# Altium integrated library Xilinx Spartan-6 FPGA.IntLib: 471 symbols (part 2 of 3)
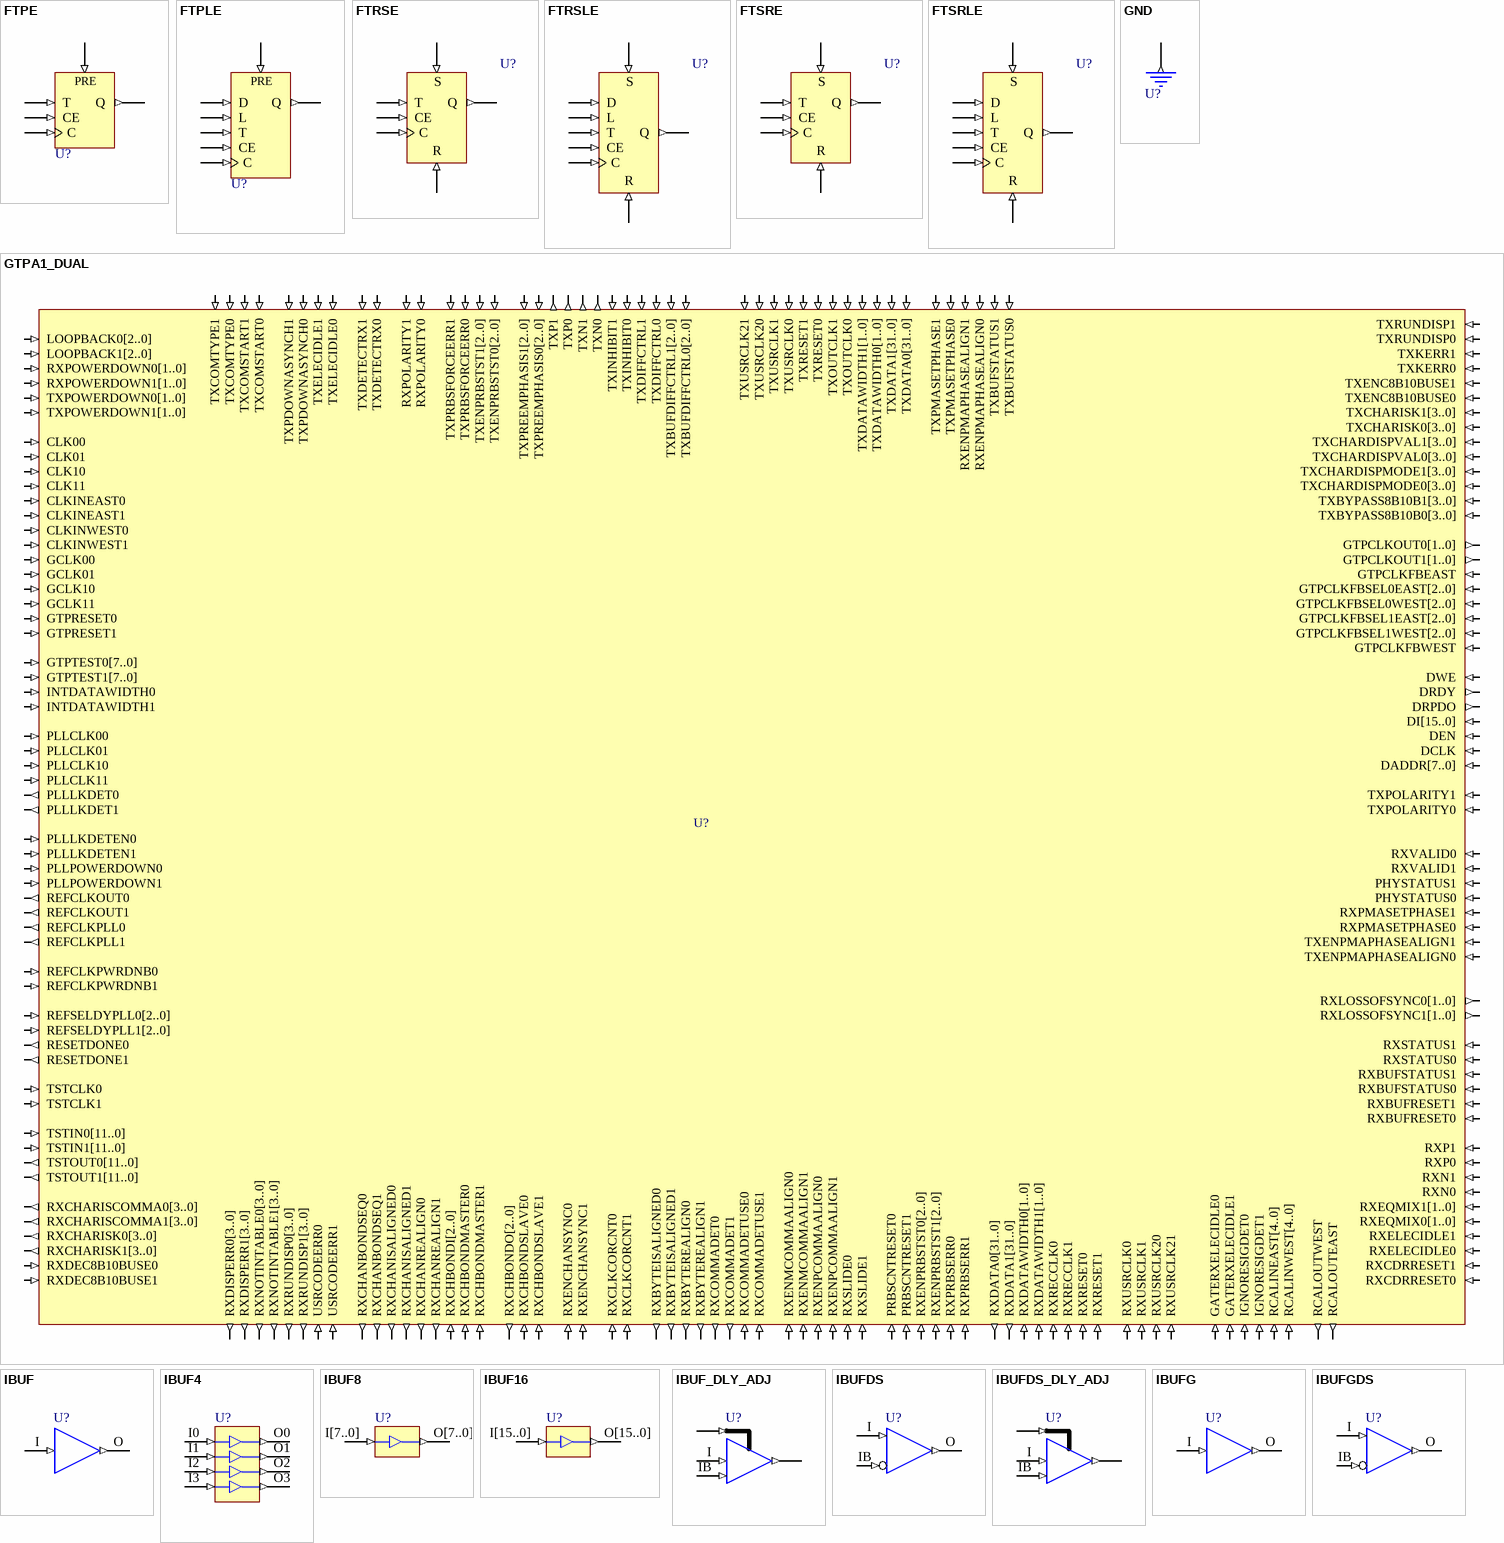
[diagram p13: symbols FTPE to IBUFGDS]

## FTSRLE
designator U?
Toggle/Loadable Flip-Flop with Toggle and Clock Enable and Synchronous Set and Reset; FPGAVendor: Xilinx; Published: 17-Dec-2009; Publisher: Altium Limited; HelpURL: http://www.xilinx.com/support/documentation/sw_manuals/xilinx11/spartan6_scm.pdf
pins: C (in), CE (in), D (in), L (in), Q (out), R (in), S (in), T (in)

## GND
designator U?
Ground-Connection Signal Tag; FPGAVendor: Xilinx; Published: 17-Dec-2009; Publisher: Altium Limited; HelpURL: http://www.xilinx.com/support/documentation/sw_manuals/xilinx11/spartan6_scm.pdf
pins: G (out)

## GTPA1_DUAL
designator U?
Dual Gigabit Transceiver; FPGAVendor: Xilinx; Published: 17-Dec-2009; Publisher: Altium Limited; HelpURL: http://www.xilinx.com/support/documentation/user_guides/ug386.pdf
pins: CLK00 (in), CLK01 (in), CLK10 (in), CLK11 (in), CLKINEAST0 (in), CLKINEAST1 (in), CLKINWEST0 (in), CLKINWEST1 (in), DADDR[7..0] (in), DCLK (in), DEN (in), DI[15..0] (in), DRDY (out), DRPDO (out), DWE (in), GATERXELECIDLE0 (in), GATERXELECIDLE1 (in), GCLK00 (in), GCLK01 (in), GCLK10 (in), GCLK11 (in), GTPCLKFBEAST (in), GTPCLKFBSEL0EAST[2..0] (in), GTPCLKFBSEL0WEST[2..0] (in), GTPCLKFBSEL1EAST[2..0] (in), GTPCLKFBSEL1WEST[2..0] (in), GTPCLKFBWEST (in), GTPCLKOUT0[1..0] (out), GTPCLKOUT1[1..0] (out), GTPRESET0 (in), GTPRESET1 (in), GTPTEST0[7..0] (in), GTPTEST1[7..0] (in), IGNORESIGDET0 (in), IGNORESIGDET1 (in), INTDATAWIDTH0 (in), INTDATAWIDTH1 (in), LOOPBACK0[2..0] (in), LOOPBACK1[2..0] (in), PHYSTATUS0 (in), PHYSTATUS1 (in), PLLCLK00 (in), PLLCLK01 (in), PLLCLK10 (in), PLLCLK11 (in), PLLLKDET0 (out), PLLLKDET1 (out), PLLLKDETEN0 (in), PLLLKDETEN1 (in), PLLPOWERDOWN0 (in), PLLPOWERDOWN1 (in), PRBSCNTRESET0 (in), PRBSCNTRESET1 (in), RCALINEAST[4..0] (in), RCALINWEST[4..0] (in), RCALOUTEAST (out), RCALOUTWEST (out), REFCLKOUT0 (out), REFCLKOUT1 (out), REFCLKPLL0 (out), REFCLKPLL1 (out), REFCLKPWRDNB0 (in), REFCLKPWRDNB1 (in), REFSELDYPLL0[2..0] (in), REFSELDYPLL1[2..0] (in), RESETDONE0 (out), RESETDONE1 (out), RXBUFRESET0 (in), RXBUFRESET1 (in), RXBUFSTATUS0 (in), RXBUFSTATUS1 (in), RXBYTEISALIGNED0 (out), RXBYTEISALIGNED1 (out), RXBYTEREALIGN0 (out), RXBYTEREALIGN1 (out), RXCDRRESET0 (in), RXCDRRESET1 (in), RXCHANBONDSEQ0 (out), RXCHANBONDSEQ1 (out), RXCHANISALIGNED0 (out), RXCHANISALIGNED1 (out), RXCHANREALIGN0 (out), RXCHANREALIGN1 (out), RXCHARISCOMMA0[3..0] (out), RXCHARISCOMMA1[3..0] (out), RXCHARISK0[3..0] (out), RXCHARISK1[3..0] (out), RXCHBONDI[2..0] (in), RXCHBONDMASTER0 (in), RXCHBONDMASTER1 (in), RXCHBONDO[2..0] (out), RXCHBONDSLAVE0 (in), RXCHBONDSLAVE1 (in), RXCLKCORCNT0 (in), RXCLKCORCNT1 (in), RXCOMMADET0 (out), RXCOMMADET1 (out), RXCOMMADETUSE0 (in), RXCOMMADETUSE1 (in), RXDATA0[31..0] (out), RXDATA1[31..0] (out), RXDATAWIDTH0[1..0] (in), RXDATAWIDTH1[1..0] (in), RXDEC8B10BUSE0 (in), RXDEC8B10BUSE1 (in), RXDISPERR0[3..0] (out), RXDISPERR1[3..0] (out), RXELECIDLE0 (in), RXELECIDLE1 (in), RXENCHANSYNC0 (in), RXENCHANSYNC1 (in), RXENMCOMMAALIGN0 (in), RXENMCOMMAALIGN1 (in), RXENPCOMMAALIGN0 (in), RXENPCOMMAALIGN1 (in), RXENPMAPHASEALIGN0 (in), RXENPMAPHASEALIGN1 (in), RXENPRBSTST0[2..0] (in), RXENPRBSTST1[2..0] (in), RXEQMIX0[1..0] (in), RXEQMIX1[1..0] (in), RXLOSSOFSYNC0[1..0] (out), RXLOSSOFSYNC1[1..0] (out), RXN0 (in), RXN1 (in), RXNOTINTABLE0[3..0] (out), RXNOTINTABLE1[3..0] (out), RXP0 (in), RXP1 (in), RXPMASETPHASE0 (in), RXPMASETPHASE1 (in), RXPOLARITY0 (in), RXPOLARITY1 (in), RXPOWERDOWN0[1..0] (in), RXPOWERDOWN1[1..0] (in), RXPRBSERR0 (in), RXPRBSERR1 (in), RXRECCLK0 (in), RXRECCLK1 (in), RXRESET0 (in), RXRESET1 (in), RXRUNDISP0[3..0] (out), RXRUNDISP1[3..0] (out), RXSLIDE0 (in), RXSLIDE1 (in), RXSTATUS0 (in), RXSTATUS1 (in), RXUSRCLK0 (in), RXUSRCLK1 (in), RXUSRCLK20 (in), RXUSRCLK21 (in), RXVALID0 (in), RXVALID1 (in), TSTCLK0 (in), TSTCLK1 (in), TSTIN0[11..0] (in), TSTIN1[11..0] (in), TSTOUT0[11..0] (out), TSTOUT1[11..0] (out), TXBUFDIFFCTRL0[2..0] (in), TXBUFDIFFCTRL1[2..0] (in), TXBUFSTATUS0 (in), TXBUFSTATUS1 (in), TXBYPASS8B10B0[3..0] (in), TXBYPASS8B10B1[3..0] (in), TXCHARDISPMODE0[3..0] (in), TXCHARDISPMODE1[3..0] (in), TXCHARDISPVAL0[3..0] (in), TXCHARDISPVAL1[3..0] (in), TXCHARISK0[3..0] (in), TXCHARISK1[3..0] (in), TXCOMSTART0 (in), TXCOMSTART1 (in), TXCOMTYPE0 (in), TXCOMTYPE1 (in), TXDATA0[31..0] (in), TXDATA1[31..0] (in), TXDATAWIDTH0[1..0] (in), TXDATAWIDTH1[1..0] (in), TXDETECTRX0 (in), TXDETECTRX1 (in), TXDIFFCTRL0 (in), TXDIFFCTRL1 (in), TXELECIDLE0 (in), TXELECIDLE1 (in), TXENC8B10BUSE0 (in), TXENC8B10BUSE1 (in), TXENPMAPHASEALIGN0 (in), TXENPMAPHASEALIGN1 (in), TXENPRBSTST0[2..0] (in), TXENPRBSTST1[2..0] (in), TXINHIBIT0 (in), TXINHIBIT1 (in), TXKERR0 (in), TXKERR1 (in), TXN0 (out), TXN1 (out), TXOUTCLK0 (in), TXOUTCLK1 (in), TXP0 (out), TXP1 (out), TXPDOWNASYNCH0 (in), TXPDOWNASYNCH1 (in), TXPMASETPHASE0 (in), TXPMASETPHASE1 (in), TXPOLARITY0 (in), TXPOLARITY1 (in), TXPOWERDOWN0[1..0] (in), TXPOWERDOWN1[1..0] (in), TXPRBSFORCEERR0 (in), TXPRBSFORCEERR1 (in), TXPREEMPHASIS0[2..0] (in), TXPREEMPHASIS1[2..0] (in), TXRESET0 (in), TXRESET1 (in), TXRUNDISP0 (in), TXRUNDISP1 (in), TXUSRCLK0 (in), TXUSRCLK1 (in), TXUSRCLK20 (in), TXUSRCLK21 (in), USRCODEERR0 (in), USRCODEERR1 (in)

## IBUF
designator U?
Single-Input Buffer; FPGAVendor: Xilinx; Published: 17-Dec-2009; Publisher: Altium Limited; HelpURL: http://www.xilinx.com/support/documentation/sw_manuals/xilinx11/spartan6_scm.pdf
pins: I (in), O (out)

## IBUF4
designator U?
Multiple-Input Buffer; FPGAVendor: Xilinx; Published: 17-Dec-2009; Publisher: Altium Limited; HelpURL: http://www.xilinx.com/support/documentation/sw_manuals/xilinx11/spartan6_scm.pdf
pins: I0 (in), I1 (in), I2 (in), I3 (in), O0 (out), O1 (out), O2 (out), O3 (out)

## IBUF8
designator U?
Multiple-Input Buffer; FPGAVendor: Xilinx; Published: 17-Dec-2009; Publisher: Altium Limited; HelpURL: http://www.xilinx.com/support/documentation/sw_manuals/xilinx11/spartan6_scm.pdf
pins: I[7..0] (in), O[7..0] (out)

## IBUF16
designator U?
Multiple-Input Buffer; FPGAVendor: Xilinx; Published: 17-Dec-2009; Publisher: Altium Limited; HelpURL: http://www.xilinx.com/support/documentation/sw_manuals/xilinx11/spartan6_scm.pdf
pins: I[15..0] (in), O[15..0] (out)

## IBUF_DLY_ADJ
designator U?
Dynamically Adjustable Input Delay Buffer; FPGAVendor: Xilinx; Published: 17-Dec-2009; Publisher: Altium Limited; HelpURL: http://www.xilinx.com/support/documentation/sw_manuals/xilinx11/spartan6_scm.pdf
pins: I (in), IB (in), O (out), S[2..0] (in)

## IBUFDS
designator U?
Differential Signaling Input Buffer; FPGAVendor: Xilinx; Published: 17-Dec-2009; Publisher: Altium Limited; HelpURL: http://www.xilinx.com/support/documentation/sw_manuals/xilinx11/spartan6_scm.pdf
pins: I (in), IB (in), O (out)

## IBUFDS_DLY_ADJ
designator U?
Dynamically Adjustable Differential Input Delay Buffer; FPGAVendor: Xilinx; Published: 17-Dec-2009; Publisher: Altium Limited; HelpURL: http://www.xilinx.com/support/documentation/sw_manuals/xilinx11/spartan6_scm.pdf
pins: I (in), IB (in), O (out), S[2..0] (in)

## IBUFG
designator U?
Dedicated Input Buffer using the LVTTL standard; FPGAVendor: Xilinx; Published: 17-Dec-2009; Publisher: Altium Limited; HelpURL: http://www.xilinx.com/support/documentation/sw_manuals/xilinx11/spartan6_scm.pdf
pins: I (in), O (out)

## IBUFGDS
designator U?
Dedicated Differential Signaling Input Buffer; FPGAVendor: Xilinx; Published: 17-Dec-2009; Publisher: Altium Limited; HelpURL: http://www.xilinx.com/support/documentation/sw_manuals/xilinx11/spartan6_scm.pdf
pins: I (in), IB (in), O (out)

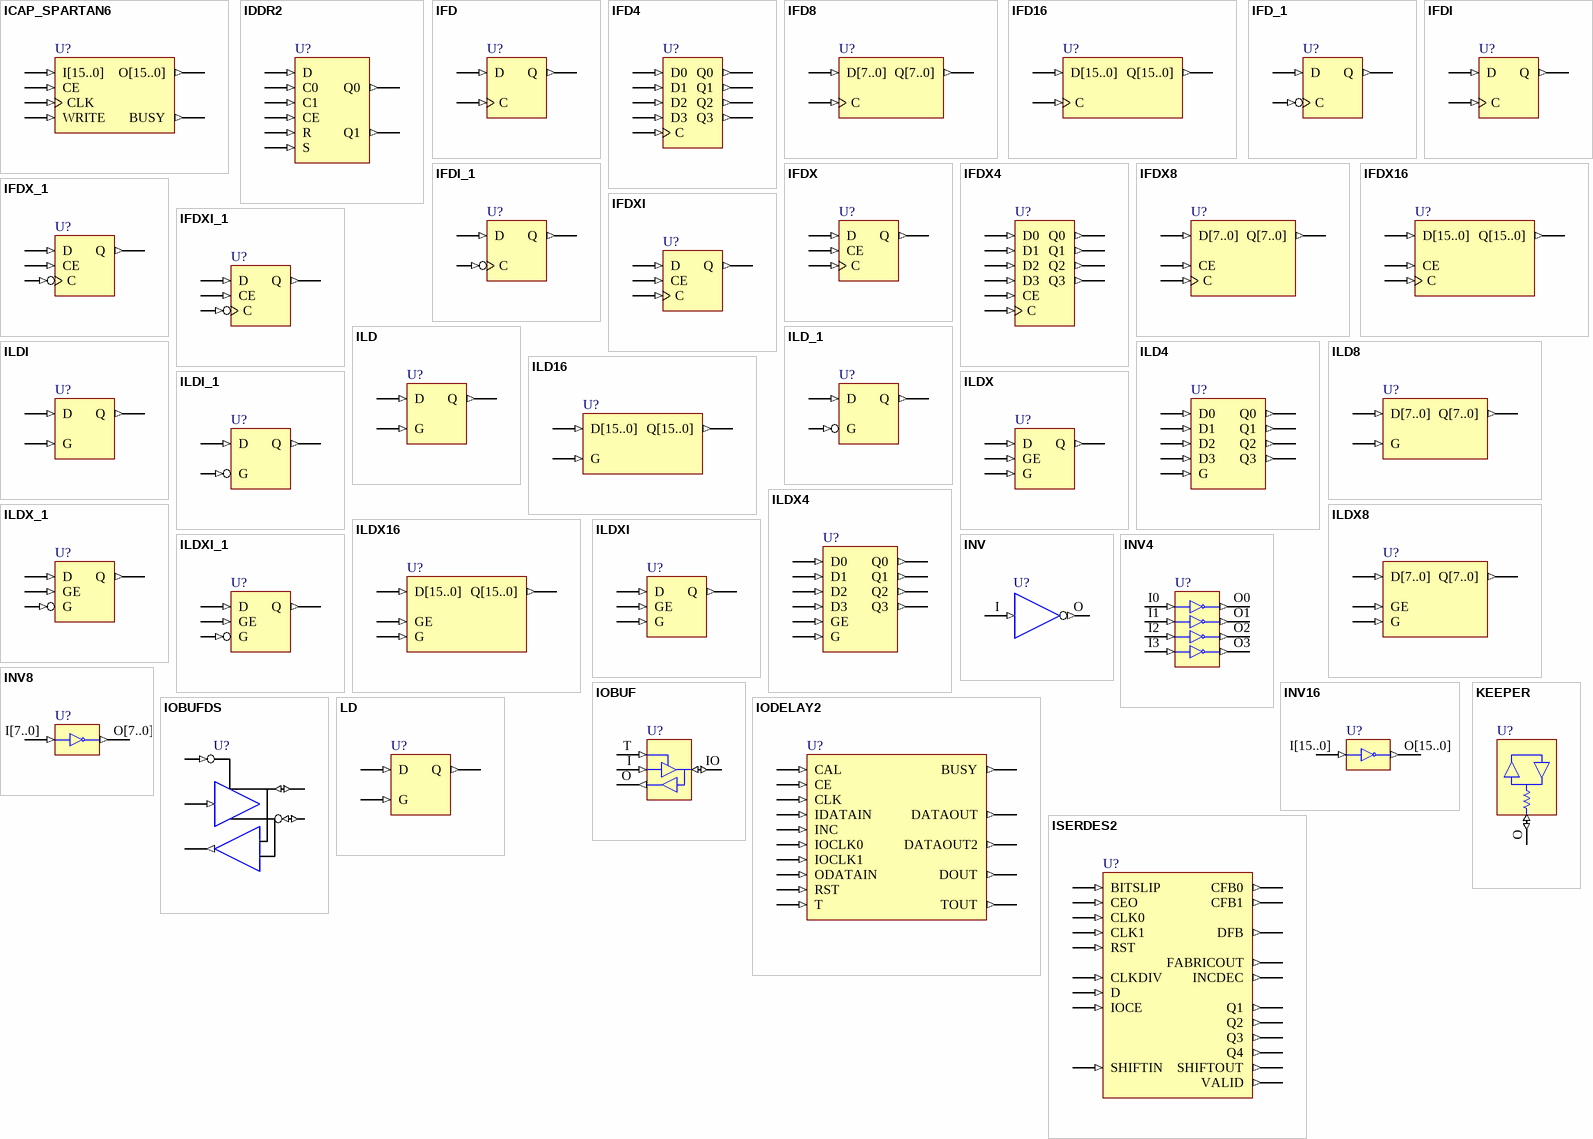
[diagram p5: symbols ICAP_SPARTAN6 to LD]

## ICAP_SPARTAN6
designator U?
Internal Configuration Access Port; FPGAVendor: Xilinx; Published: 17-Dec-2009; Publisher: Altium Limited; HelpURL: http://www.xilinx.com/support/documentation/sw_manuals/xilinx11/spartan6_scm.pdf
pins: BUSY (out), CE (in), CLK (in), I[15..0] (in), O[15..0] (out), WRITE (in)

## IDDR2
designator U?
Double Data Rate Input D Flip-Flop with Optional Data Alignment, Clock Enable andProgrammable Synchronous or Asynchronous Set/Reset; FPGAVendor: Xilinx; Published: 17-Dec-2009; Publisher: Altium Limited; HelpURL: http://www.xilinx.com/support/documentation/sw_manuals/xilinx11/spartan6_scm.pdf
pins: C0 (in), C1 (in), CE (in), D (in), Q0 (out), Q1 (out), R (in), S (in)

## IFD
designator U?
Single-Input D Flip-Flop; FPGAVendor: Xilinx; Published: 17-Dec-2009; Publisher: Altium Limited; HelpURL: http://www.xilinx.com/support/documentation/sw_manuals/xilinx11/spartan6_scm.pdf
pins: C (in), D (in), Q (out)

## IFD4
designator U?
Multiple-Input D Flip-Flop; FPGAVendor: Xilinx; Published: 17-Dec-2009; Publisher: Altium Limited; HelpURL: http://www.xilinx.com/support/documentation/sw_manuals/xilinx11/spartan6_scm.pdf
pins: C (in), D0 (in), D1 (in), D2 (in), D3 (in), Q0 (out), Q1 (out), Q2 (out), Q3 (out)

## IFD8
designator U?
Multiple-Input D Flip-Flop; FPGAVendor: Xilinx; Published: 17-Dec-2009; Publisher: Altium Limited; HelpURL: http://www.xilinx.com/support/documentation/sw_manuals/xilinx11/spartan6_scm.pdf
pins: C (in), D[7..0] (in), Q[7..0] (out)

## IFD16
designator U?
Multiple-Input D Flip-Flop; FPGAVendor: Xilinx; Published: 17-Dec-2009; Publisher: Altium Limited; HelpURL: http://www.xilinx.com/support/documentation/sw_manuals/xilinx11/spartan6_scm.pdf
pins: C (in), D[15..0] (in), Q[15..0] (out)

## IFD_1
designator U?
Input D Flip-Flop with Inverted Clock; FPGAVendor: Xilinx; Published: 17-Dec-2009; Publisher: Altium Limited; HelpURL: http://www.xilinx.com/support/documentation/sw_manuals/xilinx11/spartan6_scm.pdf
pins: C (in), D (in), Q (out)

## IFDI
designator U?
Input D Flip-Flop (Asynchronous Preset); FPGAVendor: Xilinx; Published: 17-Dec-2009; Publisher: Altium Limited; HelpURL: http://www.xilinx.com/support/documentation/sw_manuals/xilinx11/spartan6_scm.pdf
pins: C (in), D (in), Q (out)

## IFDI_1
designator U?
Input D Flip-Flop with Inverted Clock (Asynchronous Preset); FPGAVendor: Xilinx; Published: 17-Dec-2009; Publisher: Altium Limited; HelpURL: http://www.xilinx.com/support/documentation/sw_manuals/xilinx11/spartan6_scm.pdf
pins: C (in), D (in), Q (out)

## IFDX
designator U?
Single-Input D Flip-Flop with Clock Enable; FPGAVendor: Xilinx; Published: 17-Dec-2009; Publisher: Altium Limited; HelpURL: http://www.xilinx.com/support/documentation/sw_manuals/xilinx11/spartan6_scm.pdf
pins: C (in), CE (in), D (in), Q (out)

## IFDX4
designator U?
Multiple-Input D Flip-Flop with Clock Enable; FPGAVendor: Xilinx; Published: 17-Dec-2009; Publisher: Altium Limited; HelpURL: http://www.xilinx.com/support/documentation/sw_manuals/xilinx11/spartan6_scm.pdf
pins: C (in), CE (in), D0 (in), D1 (in), D2 (in), D3 (in), Q0 (out), Q1 (out), Q2 (out), Q3 (out)

## IFDX8
designator U?
Multiple-Input D Flip-Flop with Clock Enable; FPGAVendor: Xilinx; Published: 17-Dec-2009; Publisher: Altium Limited; HelpURL: http://www.xilinx.com/support/documentation/sw_manuals/xilinx11/spartan6_scm.pdf
pins: C (in), CE (in), D[7..0] (in), Q[7..0] (out)

## IFDX16
designator U?
Multiple-Input D Flip-Flop with Clock Enable; FPGAVendor: Xilinx; Published: 17-Dec-2009; Publisher: Altium Limited; HelpURL: http://www.xilinx.com/support/documentation/sw_manuals/xilinx11/spartan6_scm.pdf
pins: C (in), CE (in), D[15..0] (in), Q[15..0] (out)

## IFDX_1
designator U?
Input D Flip-Flop with Inverted Clock and Clock Enable; FPGAVendor: Xilinx; Published: 17-Dec-2009; Publisher: Altium Limited; HelpURL: http://www.xilinx.com/support/documentation/sw_manuals/xilinx11/spartan6_scm.pdf
pins: C (in), CE (in), D (in), Q (out)

## IFDXI
designator U?
Input D Flip-Flop with Clock Enable (Asynchronous Preset); FPGAVendor: Xilinx; Published: 17-Dec-2009; Publisher: Altium Limited; HelpURL: http://www.xilinx.com/support/documentation/sw_manuals/xilinx11/spartan6_scm.pdf
pins: C (in), CE (in), D (in), Q (out)

## IFDXI_1
designator U?
Input D Flip-Flop with Inverted Clock and Clock Enable (Asynchronous Preset); FPGAVendor: Xilinx; Published: 17-Dec-2009; Publisher: Altium Limited; HelpURL: http://www.xilinx.com/support/documentation/sw_manuals/xilinx11/spartan6_scm.pdf
pins: C (in), CE (in), D (in), Q (out)

## ILD
designator U?
Transparent Input Data Latch; FPGAVendor: Xilinx; Published: 17-Dec-2009; Publisher: Altium Limited; HelpURL: http://www.xilinx.com/support/documentation/sw_manuals/xilinx11/spartan6_scm.pdf
pins: D (in), G (in), Q (out)

## ILD4
designator U?
Transparent Input Data Latch; FPGAVendor: Xilinx; Published: 17-Dec-2009; Publisher: Altium Limited; HelpURL: http://www.xilinx.com/support/documentation/sw_manuals/xilinx11/spartan6_scm.pdf
pins: D0 (in), D1 (in), D2 (in), D3 (in), G (in), Q0 (out), Q1 (out), Q2 (out), Q3 (out)

## ILD8
designator U?
Transparent Input Data Latch; FPGAVendor: Xilinx; Published: 17-Dec-2009; Publisher: Altium Limited; HelpURL: http://www.xilinx.com/support/documentation/sw_manuals/xilinx11/spartan6_scm.pdf
pins: D[7..0] (in), G (in), Q[7..0] (out)

## ILD16
designator U?
Transparent Input Data Latch; FPGAVendor: Xilinx; Published: 17-Dec-2009; Publisher: Altium Limited; HelpURL: http://www.xilinx.com/support/documentation/sw_manuals/xilinx11/spartan6_scm.pdf
pins: D[15..0] (in), G (in), Q[15..0] (out)

## ILD_1
designator U?
Transparent Input Data Latch with Inverted Gate; FPGAVendor: Xilinx; Published: 17-Dec-2009; Publisher: Altium Limited; HelpURL: http://www.xilinx.com/support/documentation/sw_manuals/xilinx11/spartan6_scm.pdf
pins: D (in), G (in), Q (out)

## ILDI
designator U?
Transparent Input Data Latch (Asynchronous Preset); FPGAVendor: Xilinx; Published: 17-Dec-2009; Publisher: Altium Limited; HelpURL: http://www.xilinx.com/support/documentation/sw_manuals/xilinx11/spartan6_scm.pdf
pins: D (in), G (in), Q (out)

## ILDI_1
designator U?
Transparent Input Data Latch with Inverted Gate (Asynchronous Preset); FPGAVendor: Xilinx; Published: 17-Dec-2009; Publisher: Altium Limited; HelpURL: http://www.xilinx.com/support/documentation/sw_manuals/xilinx11/spartan6_scm.pdf
pins: D (in), G (in), Q (out)

## ILDX
designator U?
Transparent Input Data Latch; FPGAVendor: Xilinx; Published: 17-Dec-2009; Publisher: Altium Limited; HelpURL: http://www.xilinx.com/support/documentation/sw_manuals/xilinx11/spartan6_scm.pdf
pins: D (in), G (in), GE (in), Q (out)

## ILDX4
designator U?
Transparent Input Data Latch; FPGAVendor: Xilinx; Published: 17-Dec-2009; Publisher: Altium Limited; HelpURL: http://www.xilinx.com/support/documentation/sw_manuals/xilinx11/spartan6_scm.pdf
pins: D0 (in), D1 (in), D2 (in), D3 (in), G (in), GE (in), Q0 (out), Q1 (out), Q2 (out), Q3 (out)

## ILDX8
designator U?
Transparent Input Data Latch; FPGAVendor: Xilinx; Published: 17-Dec-2009; Publisher: Altium Limited; HelpURL: http://www.xilinx.com/support/documentation/sw_manuals/xilinx11/spartan6_scm.pdf
pins: D[7..0] (in), G (in), GE (in), Q[7..0] (out)

## ILDX16
designator U?
Transparent Input Data Latch; FPGAVendor: Xilinx; Published: 17-Dec-2009; Publisher: Altium Limited; HelpURL: http://www.xilinx.com/support/documentation/sw_manuals/xilinx11/spartan6_scm.pdf
pins: D[15..0] (in), G (in), GE (in), Q[15..0] (out)

## ILDX_1
designator U?
Transparent Input Data Latch with Inverted Gate; FPGAVendor: Xilinx; Published: 17-Dec-2009; Publisher: Altium Limited; HelpURL: http://www.xilinx.com/support/documentation/sw_manuals/xilinx11/spartan6_scm.pdf
pins: D (in), G (in), GE (in), Q (out)

## ILDXI
designator U?
Transparent Input Data Latch (Asynchronous Preset); FPGAVendor: Xilinx; Published: 17-Dec-2009; Publisher: Altium Limited; HelpURL: http://www.xilinx.com/support/documentation/sw_manuals/xilinx11/spartan6_scm.pdf
pins: D (in), G (in), GE (in), Q (out)

## ILDXI_1
designator U?
Transparent Input Data Latch with Inverted Gate (Asynchronous Preset); FPGAVendor: Xilinx; Published: 17-Dec-2009; Publisher: Altium Limited; HelpURL: http://www.xilinx.com/support/documentation/sw_manuals/xilinx11/spartan6_scm.pdf
pins: D (in), G (in), GE (in), Q (out)

## INV
designator U?
Inverter; FPGAVendor: Xilinx; Published: 17-Dec-2009; Publisher: Altium Limited; HelpURL: http://www.xilinx.com/support/documentation/sw_manuals/xilinx11/spartan6_scm.pdf
pins: I (in), O (out)

## INV4
designator U?
4 x Inverters; FPGAVendor: Xilinx; Published: 17-Dec-2009; Publisher: Altium Limited; HelpURL: http://www.xilinx.com/support/documentation/sw_manuals/xilinx11/spartan6_scm.pdf
pins: I0 (in), I1 (in), I2 (in), I3 (in), O0 (out), O1 (out), O2 (out), O3 (out)

## INV8
designator U?
8 x Inverters; FPGAVendor: Xilinx; Published: 17-Dec-2009; Publisher: Altium Limited; HelpURL: http://www.xilinx.com/support/documentation/sw_manuals/xilinx11/spartan6_scm.pdf
pins: I[7..0] (in), O[7..0] (out)

## INV16
designator U?
16 x Inverters; FPGAVendor: Xilinx; Published: 17-Dec-2009; Publisher: Altium Limited; HelpURL: http://www.xilinx.com/support/documentation/sw_manuals/xilinx11/spartan6_scm.pdf
pins: I[15..0] (in), O[15..0] (out)

## IOBUF
designator U?
Bi-Directional Buffer using the LVTTL standard; FPGAVendor: Xilinx; Published: 17-Dec-2009; Publisher: Altium Limited; HelpURL: http://www.xilinx.com/support/documentation/sw_manuals/xilinx11/spartan6_scm.pdf
pins: I (in), IO (io), O (out), T (in)

## IOBUFDS
designator U?
3-State Differential Signaling I/O Buffer with Active Low Output Enable; FPGAVendor: Xilinx; Published: 17-Dec-2009; Publisher: Altium Limited; HelpURL: http://www.xilinx.com/support/documentation/sw_manuals/xilinx11/spartan6_scm.pdf
pins: I (in), IO (io), IOB (io), O (out), T (in)

## IODELAY2
designator U?
Input and Output Fixed or Variable Delay Element; FPGAVendor: Xilinx; Published: 17-Dec-2009; Publisher: Altium Limited; HelpURL: http://www.xilinx.com/support/documentation/sw_manuals/xilinx11/spartan6_scm.pdf
pins: BUSY (out), CAL (in), CE (in), CLK (in), DATAOUT (out), DATAOUT2 (out), DOUT (out), IDATAIN (in), INC (in), IOCLK0 (in), IOCLK1 (in), ODATAIN (in), RST (in), T (in), TOUT (out)

## ISERDES2
designator U?
Input SERial/DESerializer; FPGAVendor: Xilinx; Published: 17-Dec-2009; Publisher: Altium Limited; HelpURL: http://www.xilinx.com/support/documentation/sw_manuals/xilinx11/spartan6_scm.pdf
pins: BITSLIP (in), CEO (in), CFB0 (out), CFB1 (out), CLK0 (in), CLK1 (in), CLKDIV (in), D (in), DFB (out), FABRICOUT (out), INCDEC (out), IOCE (in), Q1 (out), Q2 (out), Q3 (out), Q4 (out), RST (in), SHIFTIN (in), SHIFTOUT (out), VALID (out)

## KEEPER
designator U?
KEEPER Symbol; FPGAVendor: Xilinx; Published: 17-Dec-2009; Publisher: Altium Limited; HelpURL: http://www.xilinx.com/support/documentation/sw_manuals/xilinx11/spartan6_scm.pdf
pins: O (io)

## LD
designator U?
Transparent Data Latch; FPGAVendor: Xilinx; Published: 17-Dec-2009; Publisher: Altium Limited; HelpURL: http://www.xilinx.com/support/documentation/sw_manuals/xilinx11/spartan6_scm.pdf
pins: D (in), G (in), Q (out)

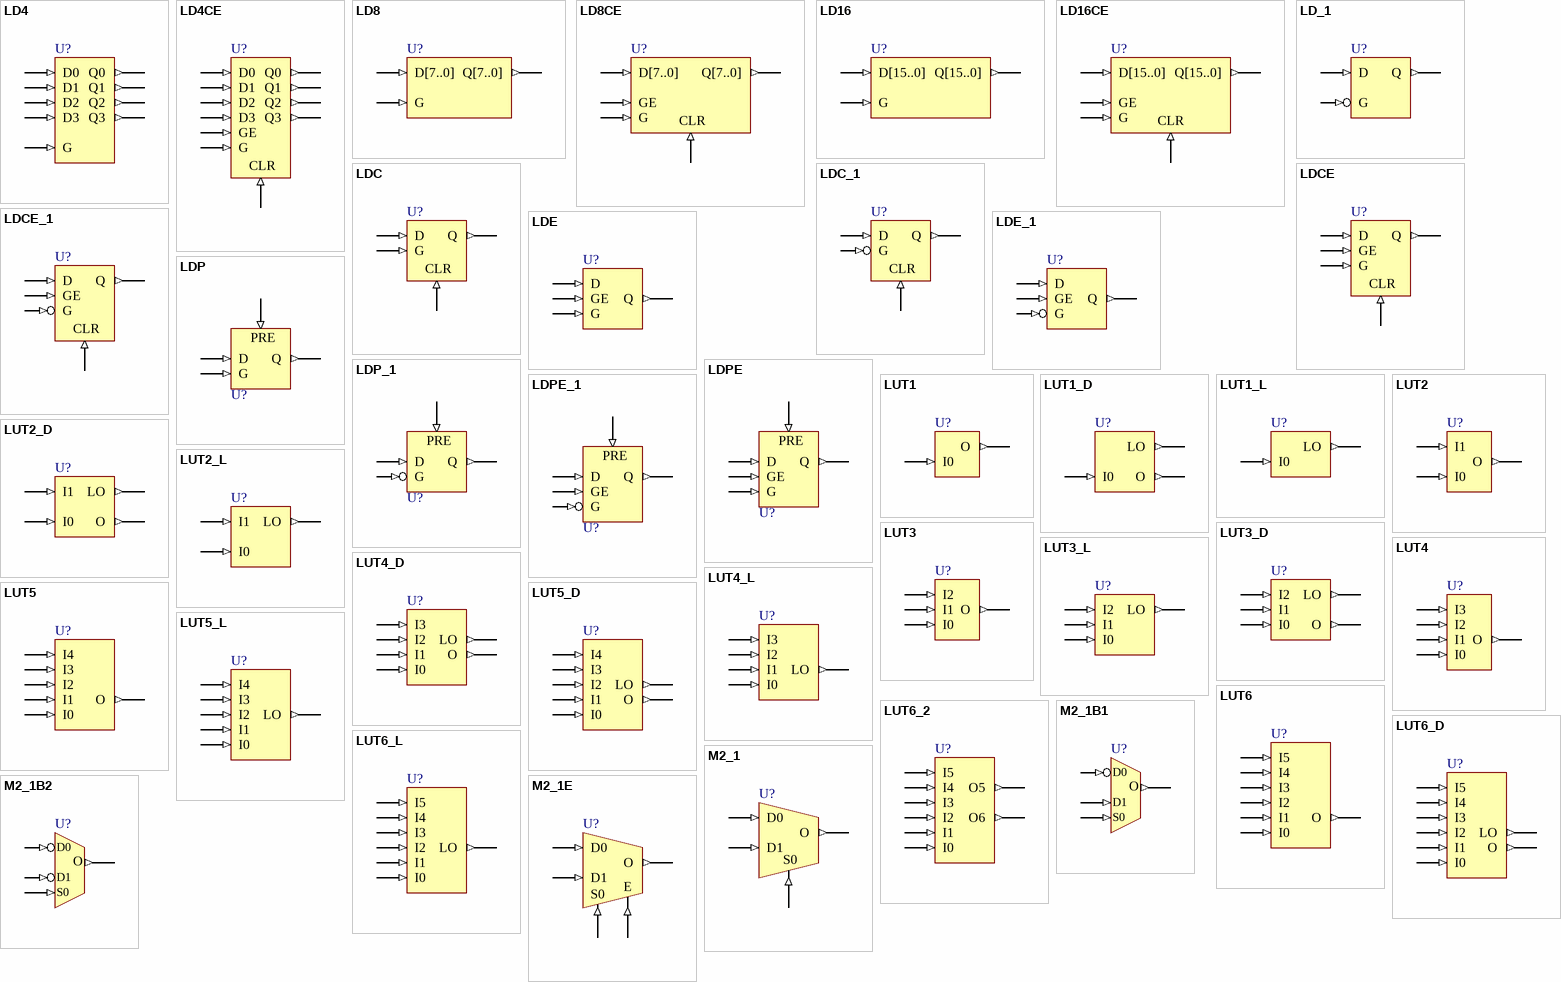
[diagram p6: symbols LD4 to M2_1E]

## LD4
designator U?
Multiple Transparent Data Latches; FPGAVendor: Xilinx; Published: 17-Dec-2009; Publisher: Altium Limited; HelpURL: http://www.xilinx.com/support/documentation/sw_manuals/xilinx11/spartan6_scm.pdf
pins: D0 (in), D1 (in), D2 (in), D3 (in), G (in), Q0 (out), Q1 (out), Q2 (out), Q3 (out)

## LD4CE
designator U?
Transparent Data Latch with Asynchronous Clear and Gate Enable; FPGAVendor: Xilinx; Published: 17-Dec-2009; Publisher: Altium Limited; HelpURL: http://www.xilinx.com/support/documentation/sw_manuals/xilinx11/spartan6_scm.pdf
pins: CLR (in), D0 (in), D1 (in), D2 (in), D3 (in), G (in), GE (in), Q0 (out), Q1 (out), Q2 (out), Q3 (out)

## LD8
designator U?
Multiple Transparent Data Latches; FPGAVendor: Xilinx; Published: 17-Dec-2009; Publisher: Altium Limited; HelpURL: http://www.xilinx.com/support/documentation/sw_manuals/xilinx11/spartan6_scm.pdf
pins: D[7..0] (in), G (in), Q[7..0] (out)

## LD8CE
designator U?
Transparent Data Latch with Asynchronous Clear and Gate Enable; FPGAVendor: Xilinx; Published: 17-Dec-2009; Publisher: Altium Limited; HelpURL: http://www.xilinx.com/support/documentation/sw_manuals/xilinx11/spartan6_scm.pdf
pins: CLR (in), D[7..0] (in), G (in), GE (in), Q[7..0] (out)

## LD16
designator U?
Multiple Transparent Data Latches; FPGAVendor: Xilinx; Published: 17-Dec-2009; Publisher: Altium Limited; HelpURL: http://www.xilinx.com/support/documentation/sw_manuals/xilinx11/spartan6_scm.pdf
pins: D[15..0] (in), G (in), Q[15..0] (out)

## LD16CE
designator U?
Transparent Data Latch with Asynchronous Clear and Gate Enable; FPGAVendor: Xilinx; Published: 17-Dec-2009; Publisher: Altium Limited; HelpURL: http://www.xilinx.com/support/documentation/sw_manuals/xilinx11/spartan6_scm.pdf
pins: CLR (in), D[15..0] (in), G (in), GE (in), Q[15..0] (out)

## LD_1
designator U?
Transparent Data Latch with Inverted Gate; FPGAVendor: Xilinx; Published: 17-Dec-2009; Publisher: Altium Limited; HelpURL: http://www.xilinx.com/support/documentation/sw_manuals/xilinx11/spartan6_scm.pdf
pins: D (in), G (in), Q (out)

## LDC
designator U?
Transparent Data Latch with Asynchronous Clear; FPGAVendor: Xilinx; Published: 17-Dec-2009; Publisher: Altium Limited; HelpURL: http://www.xilinx.com/support/documentation/sw_manuals/xilinx11/spartan6_scm.pdf
pins: CLR (in), D (in), G (in), Q (out)

## LDC_1
designator U?
Transparent Data Latch with Asynchronous Clear and Inverted Gate; FPGAVendor: Xilinx; Published: 17-Dec-2009; Publisher: Altium Limited; HelpURL: http://www.xilinx.com/support/documentation/sw_manuals/xilinx11/spartan6_scm.pdf
pins: CLR (in), D (in), G (in), Q (out)

## LDCE
designator U?
Transparent Data Latch wth Asynchronous Clear and Gate Enable; FPGAVendor: Xilinx; Published: 17-Dec-2009; Publisher: Altium Limited; HelpURL: http://www.xilinx.com/support/documentation/sw_manuals/xilinx11/spartan6_scm.pdf
pins: CLR (in), D (in), G (in), GE (in), Q (out)

## LDCE_1
designator U?
Transparent Data Latch with Asynchronous Clear, Gate Enable,  and Inverted Gate; FPGAVendor: Xilinx; Published: 17-Dec-2009; Publisher: Altium Limited; HelpURL: http://www.xilinx.com/support/documentation/sw_manuals/xilinx11/spartan6_scm.pdf
pins: CLR (in), D (in), G (in), GE (in), Q (out)

## LDE
designator U?
Transparent Data Latch with Gate Enable; FPGAVendor: Xilinx; Published: 17-Dec-2009; Publisher: Altium Limited; HelpURL: http://www.xilinx.com/support/documentation/sw_manuals/xilinx11/spartan6_scm.pdf
pins: D (in), G (in), GE (in), Q (out)

## LDE_1
designator U?
Transparent Data Latch with Gate Enable and Inverted Gate; FPGAVendor: Xilinx; Published: 17-Dec-2009; Publisher: Altium Limited; HelpURL: http://www.xilinx.com/support/documentation/sw_manuals/xilinx11/spartan6_scm.pdf
pins: D (in), G (in), GE (in), Q (out)

## LDP
designator U?
Transparent Data Latch with Asynchronous Preset; FPGAVendor: Xilinx; Published: 17-Dec-2009; Publisher: Altium Limited; HelpURL: http://www.xilinx.com/support/documentation/sw_manuals/xilinx11/spartan6_scm.pdf
pins: D (in), G (in), PRE (in), Q (out)

## LDP_1
designator U?
Transparent Data Latch with Asynchronous Preset and Inverted Gate; FPGAVendor: Xilinx; Published: 17-Dec-2009; Publisher: Altium Limited; HelpURL: http://www.xilinx.com/support/documentation/sw_manuals/xilinx11/spartan6_scm.pdf
pins: D (in), G (in), PRE (in), Q (out)

## LDPE
designator U?
Transparent Data Latch with Asynchronous Preset and Gate Enable; FPGAVendor: Xilinx; Published: 17-Dec-2009; Publisher: Altium Limited; HelpURL: http://www.xilinx.com/support/documentation/sw_manuals/xilinx11/spartan6_scm.pdf
pins: D (in), G (in), GE (in), PRE (in), Q (out)

## LDPE_1
designator U?
Transparent Data Latch with Asynchronous Preset, Gate Enable, and Inverted Gate; FPGAVendor: Xilinx; Published: 17-Dec-2009; Publisher: Altium Limited; HelpURL: http://www.xilinx.com/support/documentation/sw_manuals/xilinx11/spartan6_scm.pdf
pins: D (in), G (in), GE (in), PRE (in), Q (out)

## LUT1
designator U?
1-Bit Look-Up-Table with General Output; FPGAVendor: Xilinx; Published: 17-Dec-2009; Publisher: Altium Limited; HelpURL: http://www.xilinx.com/support/documentation/sw_manuals/xilinx11/spartan6_scm.pdf
pins: I0 (in), O (out)

## LUT1_D
designator U?
1-Bit Look-Up-Table with Dual Output; FPGAVendor: Xilinx; Published: 17-Dec-2009; Publisher: Altium Limited; HelpURL: http://www.xilinx.com/support/documentation/sw_manuals/xilinx11/spartan6_scm.pdf
pins: I0 (in), LO (out), O (out)

## LUT1_L
designator U?
1-Bit Look-Up-Table with Local Output; FPGAVendor: Xilinx; Published: 17-Dec-2009; Publisher: Altium Limited; HelpURL: http://www.xilinx.com/support/documentation/sw_manuals/xilinx11/spartan6_scm.pdf
pins: I0 (in), LO (out)

## LUT2
designator U?
2-Bit Look-Up-Table with General Output; FPGAVendor: Xilinx; Published: 17-Dec-2009; Publisher: Altium Limited; HelpURL: http://www.xilinx.com/support/documentation/sw_manuals/xilinx11/spartan6_scm.pdf
pins: I0 (in), I1 (in), O (out)

## LUT2_D
designator U?
2-Bit Look-Up-Table with Dual Output; FPGAVendor: Xilinx; Published: 17-Dec-2009; Publisher: Altium Limited; HelpURL: http://www.xilinx.com/support/documentation/sw_manuals/xilinx11/spartan6_scm.pdf
pins: I0 (in), I1 (in), LO (out), O (out)

## LUT2_L
designator U?
2-Bit Look-Up-Table with Local Output; FPGAVendor: Xilinx; Published: 17-Dec-2009; Publisher: Altium Limited; HelpURL: http://www.xilinx.com/support/documentation/sw_manuals/xilinx11/spartan6_scm.pdf
pins: I0 (in), I1 (in), LO (out)

## LUT3
designator U?
3-Bit Look-Up-Table with General Output; FPGAVendor: Xilinx; Published: 17-Dec-2009; Publisher: Altium Limited; HelpURL: http://www.xilinx.com/support/documentation/sw_manuals/xilinx11/spartan6_scm.pdf
pins: I0 (in), I1 (in), I2 (in), O (out)

## LUT3_D
designator U?
3-Bit Look-Up-Table with Dual Output; FPGAVendor: Xilinx; Published: 17-Dec-2009; Publisher: Altium Limited; HelpURL: http://www.xilinx.com/support/documentation/sw_manuals/xilinx11/spartan6_scm.pdf
pins: I0 (in), I1 (in), I2 (in), LO (out), O (out)

## LUT3_L
designator U?
3-Bit Look-Up-Table with Local Output; FPGAVendor: Xilinx; Published: 17-Dec-2009; Publisher: Altium Limited; HelpURL: http://www.xilinx.com/support/documentation/sw_manuals/xilinx11/spartan6_scm.pdf
pins: I0 (in), I1 (in), I2 (in), LO (out)

## LUT4
designator U?
4-Bit Look-Up-Table with General Output; FPGAVendor: Xilinx; Published: 17-Dec-2009; Publisher: Altium Limited; HelpURL: http://www.xilinx.com/support/documentation/sw_manuals/xilinx11/spartan6_scm.pdf
pins: I0 (in), I1 (in), I2 (in), I3 (in), O (out)

## LUT4_D
designator U?
4-Bit Look-Up-Table with Dual Output; FPGAVendor: Xilinx; Published: 17-Dec-2009; Publisher: Altium Limited; HelpURL: http://www.xilinx.com/support/documentation/sw_manuals/xilinx11/spartan6_scm.pdf
pins: I0 (in), I1 (in), I2 (in), I3 (in), LO (out), O (out)

## LUT4_L
designator U?
4-Bit Look-Up-Table with Local Output; FPGAVendor: Xilinx; Published: 17-Dec-2009; Publisher: Altium Limited; HelpURL: http://www.xilinx.com/support/documentation/sw_manuals/xilinx11/spartan6_scm.pdf
pins: I0 (in), I1 (in), I2 (in), I3 (in), LO (out)

## LUT5
designator U?
5-Input Lookup Table with General Output; FPGAVendor: Xilinx; Published: 17-Dec-2009; Publisher: Altium Limited; HelpURL: http://www.xilinx.com/support/documentation/sw_manuals/xilinx11/spartan6_scm.pdf
pins: I0 (in), I1 (in), I2 (in), I3 (in), I4 (in), O (out)

## LUT5_D
designator U?
5-Input Lookup Table with General and Local Outputs; FPGAVendor: Xilinx; Published: 17-Dec-2009; Publisher: Altium Limited; HelpURL: http://www.xilinx.com/support/documentation/sw_manuals/xilinx11/spartan6_scm.pdf
pins: I0 (in), I1 (in), I2 (in), I3 (in), I4 (in), LO (out), O (out)

## LUT5_L
designator U?
5-Input Lookup Table with Local Output; FPGAVendor: Xilinx; Published: 17-Dec-2009; Publisher: Altium Limited; HelpURL: http://www.xilinx.com/support/documentation/sw_manuals/xilinx11/spartan6_scm.pdf
pins: I0 (in), I1 (in), I2 (in), I3 (in), I4 (in), LO (out)

## LUT6
designator U?
6-Input Lookup Table with General Output; FPGAVendor: Xilinx; Published: 17-Dec-2009; Publisher: Altium Limited; HelpURL: http://www.xilinx.com/support/documentation/sw_manuals/xilinx11/spartan6_scm.pdf
pins: I0 (in), I1 (in), I2 (in), I3 (in), I4 (in), I5 (in), O (out)

## LUT6_2
designator U?
Six-input, 2-output, Look-Up Table; FPGAVendor: Xilinx; Published: 17-Dec-2009; Publisher: Altium Limited; HelpURL: http://www.xilinx.com/support/documentation/sw_manuals/xilinx11/spartan6_scm.pdf
pins: I0 (in), I1 (in), I2 (in), I3 (in), I4 (in), I5 (in), O5 (out), O6 (out)

## LUT6_D
designator U?
6-Input Lookup Table with General and Local Outputs; FPGAVendor: Xilinx; Published: 17-Dec-2009; Publisher: Altium Limited; HelpURL: http://www.xilinx.com/support/documentation/sw_manuals/xilinx11/spartan6_scm.pdf
pins: I0 (in), I1 (in), I2 (in), I3 (in), I4 (in), I5 (in), LO (out), O (out)

## LUT6_L
designator U?
6-Input Lookup Table with Local Output; FPGAVendor: Xilinx; Published: 17-Dec-2009; Publisher: Altium Limited; HelpURL: http://www.xilinx.com/support/documentation/sw_manuals/xilinx11/spartan6_scm.pdf
pins: I0 (in), I1 (in), I2 (in), I3 (in), I4 (in), I5 (in), LO (out)

## M2_1
designator U?
2-to-1 Multiplexer; FPGAVendor: Xilinx; Published: 17-Dec-2009; Publisher: Altium Limited; HelpURL: http://www.xilinx.com/support/documentation/sw_manuals/xilinx11/spartan6_scm.pdf
pins: D0 (in), D1 (in), O (out), S0 (in)

## M2_1B1
designator U?
2-to-1 Multiplexer with D0 Inverted; FPGAVendor: Xilinx; Published: 17-Dec-2009; Publisher: Altium Limited; HelpURL: http://www.xilinx.com/support/documentation/sw_manuals/xilinx11/spartan6_scm.pdf
pins: D0 (in), D1 (in), O (out), S0 (in)

## M2_1B2
designator U?
2-to-1 Multiplexer with D0 and D1 Inverted; FPGAVendor: Xilinx; Published: 17-Dec-2009; Publisher: Altium Limited; HelpURL: http://www.xilinx.com/support/documentation/sw_manuals/xilinx11/spartan6_scm.pdf
pins: D0 (in), D1 (in), O (out), S0 (in)

## M2_1E
designator U?
2-to-1 Multiplexer with Enable; FPGAVendor: Xilinx; Published: 17-Dec-2009; Publisher: Altium Limited; HelpURL: http://www.xilinx.com/support/documentation/sw_manuals/xilinx11/spartan6_scm.pdf
pins: D0 (in), D1 (in), E (in), O (out), S0 (in)

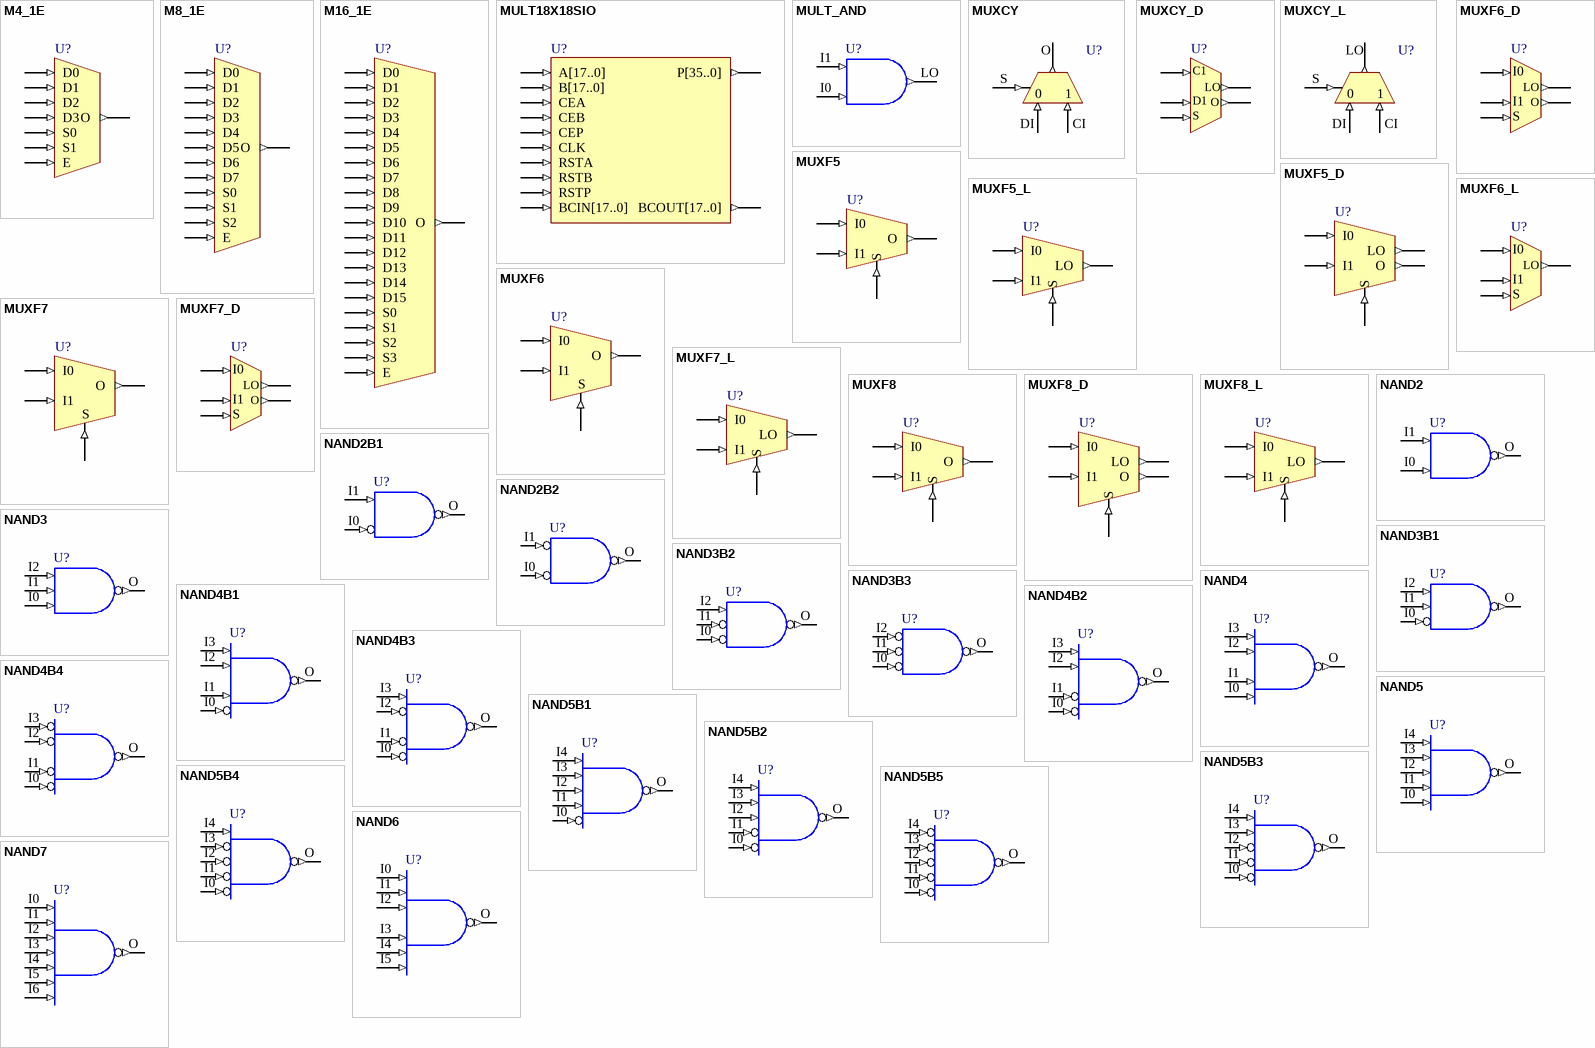
[diagram p7: symbols M4_1E to NAND7]

## M4_1E
designator U?
4-to-1 Multiplexer with Enable; FPGAVendor: Xilinx; Published: 17-Dec-2009; Publisher: Altium Limited; HelpURL: http://www.xilinx.com/support/documentation/sw_manuals/xilinx11/spartan6_scm.pdf
pins: D0 (in), D1 (in), D2 (in), D3 (in), E (in), O (out), S0 (in), S1 (in)

## M8_1E
designator U?
8-to-1 Multiplexer with Enable; FPGAVendor: Xilinx; Published: 17-Dec-2009; Publisher: Altium Limited; HelpURL: http://www.xilinx.com/support/documentation/sw_manuals/xilinx11/spartan6_scm.pdf
pins: D0 (in), D1 (in), D2 (in), D3 (in), D4 (in), D5 (in), D6 (in), D7 (in), E (in), O (out), S0 (in), S1 (in), S2 (in)

## M16_1E
designator U?
16-to-1 Multiplexer with Enable; FPGAVendor: Xilinx; Published: 17-Dec-2009; Publisher: Altium Limited; HelpURL: http://www.xilinx.com/support/documentation/sw_manuals/xilinx11/spartan6_scm.pdf
pins: D0 (in), D1 (in), D2 (in), D3 (in), D4 (in), D5 (in), D6 (in), D7 (in), D8 (in), D9 (in), D10 (in), D11 (in), D12 (in), D13 (in), D14 (in), D15 (in), E (in), O (out), S0 (in), S1 (in), S2 (in), S3 (in)

## MULT18X18SIO
designator U?
18 x 18 Cascadable Signed Multiplier with Optional Input and Output Registers, Clock Enable, and Synchronous Reset; FPGAVendor: Xilinx; Published: 17-Dec-2009; Publisher: Altium Limited; HelpURL: http://www.xilinx.com/support/documentation/sw_manuals/xilinx11/spartan6_scm.pdf
pins: A[17..0] (in), B[17..0] (in), BCIN[17..0] (in), BCOUT[17..0] (out), CEA (in), CEB (in), CEP (in), CLK (in), P[35..0] (out), RSTA (in), RSTB (in), RSTP (in)

## MULT_AND
designator U?
Fast Multiplier AND; FPGAVendor: Xilinx; Published: 17-Dec-2009; Publisher: Altium Limited; HelpURL: http://www.xilinx.com/support/documentation/sw_manuals/xilinx11/spartan6_scm.pdf
pins: I0 (in), I1 (in), LO (out)

## MUXCY
designator U?
2-to-1 Multiplexer for Carry Logic with General Output; FPGAVendor: Xilinx; Published: 17-Dec-2009; Publisher: Altium Limited; HelpURL: http://www.xilinx.com/support/documentation/sw_manuals/xilinx11/spartan6_scm.pdf
pins: CI (in), DI (in), O (out), S (in)
text: 0; 1

## MUXCY_D
designator U?
2-to-1 Multiplexer for Carry Logic with Dual Output; FPGAVendor: Xilinx; Published: 17-Dec-2009; Publisher: Altium Limited; HelpURL: http://www.xilinx.com/support/documentation/sw_manuals/xilinx11/spartan6_scm.pdf
pins: CI (in), DI (in), LO (out), O (out), S (in)
text: C1; D1

## MUXCY_L
designator U?
2-to-1 Multiplexer for Carry Logic with Local Output; FPGAVendor: Xilinx; Published: 17-Dec-2009; Publisher: Altium Limited; HelpURL: http://www.xilinx.com/support/documentation/sw_manuals/xilinx11/spartan6_scm.pdf
pins: CI (in), DI (in), LO (out), S (in)
text: 0; 1

## MUXF5
designator U?
2-to-1 Lookup Table Multiplexer with General Output; FPGAVendor: Xilinx; Published: 17-Dec-2009; Publisher: Altium Limited; HelpURL: http://www.xilinx.com/support/documentation/sw_manuals/xilinx11/spartan6_scm.pdf
pins: I0 (in), I1 (in), O (out), S (in)

## MUXF5_D
designator U?
2-to-1 Lookup Table Multiplexer with Dual Output; FPGAVendor: Xilinx; Published: 17-Dec-2009; Publisher: Altium Limited; HelpURL: http://www.xilinx.com/support/documentation/sw_manuals/xilinx11/spartan6_scm.pdf
pins: I0 (in), I1 (in), LO (out), O (out), S (in)

## MUXF5_L
designator U?
2-to-1 Lookup Table Multiplexer with Local Output; FPGAVendor: Xilinx; Published: 17-Dec-2009; Publisher: Altium Limited; HelpURL: http://www.xilinx.com/support/documentation/sw_manuals/xilinx11/spartan6_scm.pdf
pins: I0 (in), I1 (in), LO (out), S (in)

## MUXF6
designator U?
2-to-1 Lookup Table Multiplexer with General Output; FPGAVendor: Xilinx; Published: 17-Dec-2009; Publisher: Altium Limited; HelpURL: http://www.xilinx.com/support/documentation/sw_manuals/xilinx11/spartan6_scm.pdf
pins: I0 (in), I1 (in), O (out), S (in)

## MUXF6_D
designator U?
2-to-1 Lookup Table Multiplexer with Dual Output; FPGAVendor: Xilinx; Published: 17-Dec-2009; Publisher: Altium Limited; HelpURL: http://www.xilinx.com/support/documentation/sw_manuals/xilinx11/spartan6_scm.pdf
pins: I0 (in), I1 (in), LO (out), O (out), S (in)

## MUXF6_L
designator U?
2-to-1 Lookup Table Multiplexer with Local Output; FPGAVendor: Xilinx; Published: 17-Dec-2009; Publisher: Altium Limited; HelpURL: http://www.xilinx.com/support/documentation/sw_manuals/xilinx11/spartan6_scm.pdf
pins: I0 (in), I1 (in), LO (out), S (in)

## MUXF7
designator U?
2-to-1 Lookup Table Multiplexer with General Output; FPGAVendor: Xilinx; Published: 17-Dec-2009; Publisher: Altium Limited; HelpURL: http://www.xilinx.com/support/documentation/sw_manuals/xilinx11/spartan6_scm.pdf
pins: I0 (in), I1 (in), O (out), S (in)

## MUXF7_D
designator U?
2-to-1 Lookup Table Multiplexer with General Output; FPGAVendor: Xilinx; Published: 17-Dec-2009; Publisher: Altium Limited; HelpURL: http://www.xilinx.com/support/documentation/sw_manuals/xilinx11/spartan6_scm.pdf
pins: I0 (in), I1 (in), LO (out), O (out), S (in)

## MUXF7_L
designator U?
2-to-1 Lookup Table Multiplexer with Local Output; FPGAVendor: Xilinx; Published: 17-Dec-2009; Publisher: Altium Limited; HelpURL: http://www.xilinx.com/support/documentation/sw_manuals/xilinx11/spartan6_scm.pdf
pins: I0 (in), I1 (in), LO (out), S (in)

## MUXF8
designator U?
2-to-1 Lookup Table Multiplexer with General Output; FPGAVendor: Xilinx; Published: 17-Dec-2009; Publisher: Altium Limited; HelpURL: http://www.xilinx.com/support/documentation/sw_manuals/xilinx11/spartan6_scm.pdf
pins: I0 (in), I1 (in), O (out), S (in)

## MUXF8_D
designator U?
2-to-1 Lookup Table Multiplexer with Dual Output; FPGAVendor: Xilinx; Published: 17-Dec-2009; Publisher: Altium Limited; HelpURL: http://www.xilinx.com/support/documentation/sw_manuals/xilinx11/spartan6_scm.pdf
pins: I0 (in), I1 (in), LO (out), O (out), S (in)

## MUXF8_L
designator U?
2-to-1 Lookup Table Multiplexer with Local Output; FPGAVendor: Xilinx; Published: 17-Dec-2009; Publisher: Altium Limited; HelpURL: http://www.xilinx.com/support/documentation/sw_manuals/xilinx11/spartan6_scm.pdf
pins: I0 (in), I1 (in), LO (out), S (in)

## NAND2
designator U?
2-Input NAND Gate; FPGAVendor: Xilinx; Published: 17-Dec-2009; Publisher: Altium Limited; HelpURL: http://www.xilinx.com/support/documentation/sw_manuals/xilinx11/spartan6_scm.pdf
pins: I0 (in), I1 (in), O (out)

## NAND2B1
designator U?
2-Input NAND Gate with One Inverted Input; FPGAVendor: Xilinx; Published: 17-Dec-2009; Publisher: Altium Limited; HelpURL: http://www.xilinx.com/support/documentation/sw_manuals/xilinx11/spartan6_scm.pdf
pins: I0 (in), I1 (in), O (out)

## NAND2B2
designator U?
2-Input NAND Gate with Two Inverted Inputs; FPGAVendor: Xilinx; Published: 17-Dec-2009; Publisher: Altium Limited; HelpURL: http://www.xilinx.com/support/documentation/sw_manuals/xilinx11/spartan6_scm.pdf
pins: I0 (in), I1 (in), O (out)

## NAND3
designator U?
3-Input NAND Gate; FPGAVendor: Xilinx; Published: 17-Dec-2009; Publisher: Altium Limited; HelpURL: http://www.xilinx.com/support/documentation/sw_manuals/xilinx11/spartan6_scm.pdf
pins: I0 (in), I1 (in), I2 (in), O (out)

## NAND3B1
designator U?
3-Input NAND Gate with One Inverted Input; FPGAVendor: Xilinx; Published: 17-Dec-2009; Publisher: Altium Limited; HelpURL: http://www.xilinx.com/support/documentation/sw_manuals/xilinx11/spartan6_scm.pdf
pins: I0 (in), I1 (in), I2 (in), O (out)

## NAND3B2
designator U?
3-Input NAND Gate with Two Inverted Inputs; FPGAVendor: Xilinx; Published: 17-Dec-2009; Publisher: Altium Limited; HelpURL: http://www.xilinx.com/support/documentation/sw_manuals/xilinx11/spartan6_scm.pdf
pins: I0 (in), I1 (in), I2 (in), O (out)

## NAND3B3
designator U?
3-Input NAND Gate with Three Inverted Inputs; FPGAVendor: Xilinx; Published: 17-Dec-2009; Publisher: Altium Limited; HelpURL: http://www.xilinx.com/support/documentation/sw_manuals/xilinx11/spartan6_scm.pdf
pins: I0 (in), I1 (in), I2 (in), O (out)

## NAND4
designator U?
4-Input NAND Gate; FPGAVendor: Xilinx; Published: 17-Dec-2009; Publisher: Altium Limited; HelpURL: http://www.xilinx.com/support/documentation/sw_manuals/xilinx11/spartan6_scm.pdf
pins: I0 (in), I1 (in), I2 (in), I3 (in), O (out)

## NAND4B1
designator U?
4-Input NAND Gate with One Inverted Input; FPGAVendor: Xilinx; Published: 17-Dec-2009; Publisher: Altium Limited; HelpURL: http://www.xilinx.com/support/documentation/sw_manuals/xilinx11/spartan6_scm.pdf
pins: I0 (in), I1 (in), I2 (in), I3 (in), O (out)

## NAND4B2
designator U?
4-Input NAND Gate with Two Inverted Inputs; FPGAVendor: Xilinx; Published: 17-Dec-2009; Publisher: Altium Limited; HelpURL: http://www.xilinx.com/support/documentation/sw_manuals/xilinx11/spartan6_scm.pdf
pins: I0 (in), I1 (in), I2 (in), I3 (in), O (out)

## NAND4B3
designator U?
4-Input NAND Gate with Three Inverted Inputs; FPGAVendor: Xilinx; Published: 17-Dec-2009; Publisher: Altium Limited; HelpURL: http://www.xilinx.com/support/documentation/sw_manuals/xilinx11/spartan6_scm.pdf
pins: I0 (in), I1 (in), I2 (in), I3 (in), O (out)

## NAND4B4
designator U?
4-Input NAND Gate with Four Inverted Inputs; FPGAVendor: Xilinx; Published: 17-Dec-2009; Publisher: Altium Limited; HelpURL: http://www.xilinx.com/support/documentation/sw_manuals/xilinx11/spartan6_scm.pdf
pins: I0 (in), I1 (in), I2 (in), I3 (in), O (out)

## NAND5
designator U?
5-Input NAND Gate; FPGAVendor: Xilinx; Published: 17-Dec-2009; Publisher: Altium Limited; HelpURL: http://www.xilinx.com/support/documentation/sw_manuals/xilinx11/spartan6_scm.pdf
pins: I0 (in), I1 (in), I2 (in), I3 (in), I4 (in), O (out)

## NAND5B1
designator U?
5-Input NAND Gate with One Inverted Input; FPGAVendor: Xilinx; Published: 17-Dec-2009; Publisher: Altium Limited; HelpURL: http://www.xilinx.com/support/documentation/sw_manuals/xilinx11/spartan6_scm.pdf
pins: I0 (in), I1 (in), I2 (in), I3 (in), I4 (in), O (out)

## NAND5B2
designator U?
5-Input NAND Gate with Two Inverted Inputs; FPGAVendor: Xilinx; Published: 17-Dec-2009; Publisher: Altium Limited; HelpURL: http://www.xilinx.com/support/documentation/sw_manuals/xilinx11/spartan6_scm.pdf
pins: I0 (in), I1 (in), I2 (in), I3 (in), I4 (in), O (out)

## NAND5B3
designator U?
5-Input NAND Gate with Three Inverted Inputs; FPGAVendor: Xilinx; Published: 17-Dec-2009; Publisher: Altium Limited; HelpURL: http://www.xilinx.com/support/documentation/sw_manuals/xilinx11/spartan6_scm.pdf
pins: I0 (in), I1 (in), I2 (in), I3 (in), I4 (in), O (out)

## NAND5B4
designator U?
5-Input NAND Gate with Four Inverted Inputs; FPGAVendor: Xilinx; Published: 17-Dec-2009; Publisher: Altium Limited; HelpURL: http://www.xilinx.com/support/documentation/sw_manuals/xilinx11/spartan6_scm.pdf
pins: I0 (in), I1 (in), I2 (in), I3 (in), I4 (in), O (out)

## NAND5B5
designator U?
5-Input NAND Gate with Five Inverted Inputs; FPGAVendor: Xilinx; Published: 17-Dec-2009; Publisher: Altium Limited; HelpURL: http://www.xilinx.com/support/documentation/sw_manuals/xilinx11/spartan6_scm.pdf
pins: I0 (in), I1 (in), I2 (in), I3 (in), I4 (in), O (out)

## NAND6
designator U?
6-Input NAND Gate; FPGAVendor: Xilinx; Published: 17-Dec-2009; Publisher: Altium Limited; HelpURL: http://www.xilinx.com/support/documentation/sw_manuals/xilinx11/spartan6_scm.pdf
pins: I0 (in), I1 (in), I2 (in), I3 (in), I4 (in), I5 (in), O (out)

## NAND7
designator U?
7-Input NAND Gate; FPGAVendor: Xilinx; Published: 17-Dec-2009; Publisher: Altium Limited; HelpURL: http://www.xilinx.com/support/documentation/sw_manuals/xilinx11/spartan6_scm.pdf
pins: I0 (in), I1 (in), I2 (in), I3 (in), I4 (in), I5 (in), I6 (in), O (out)

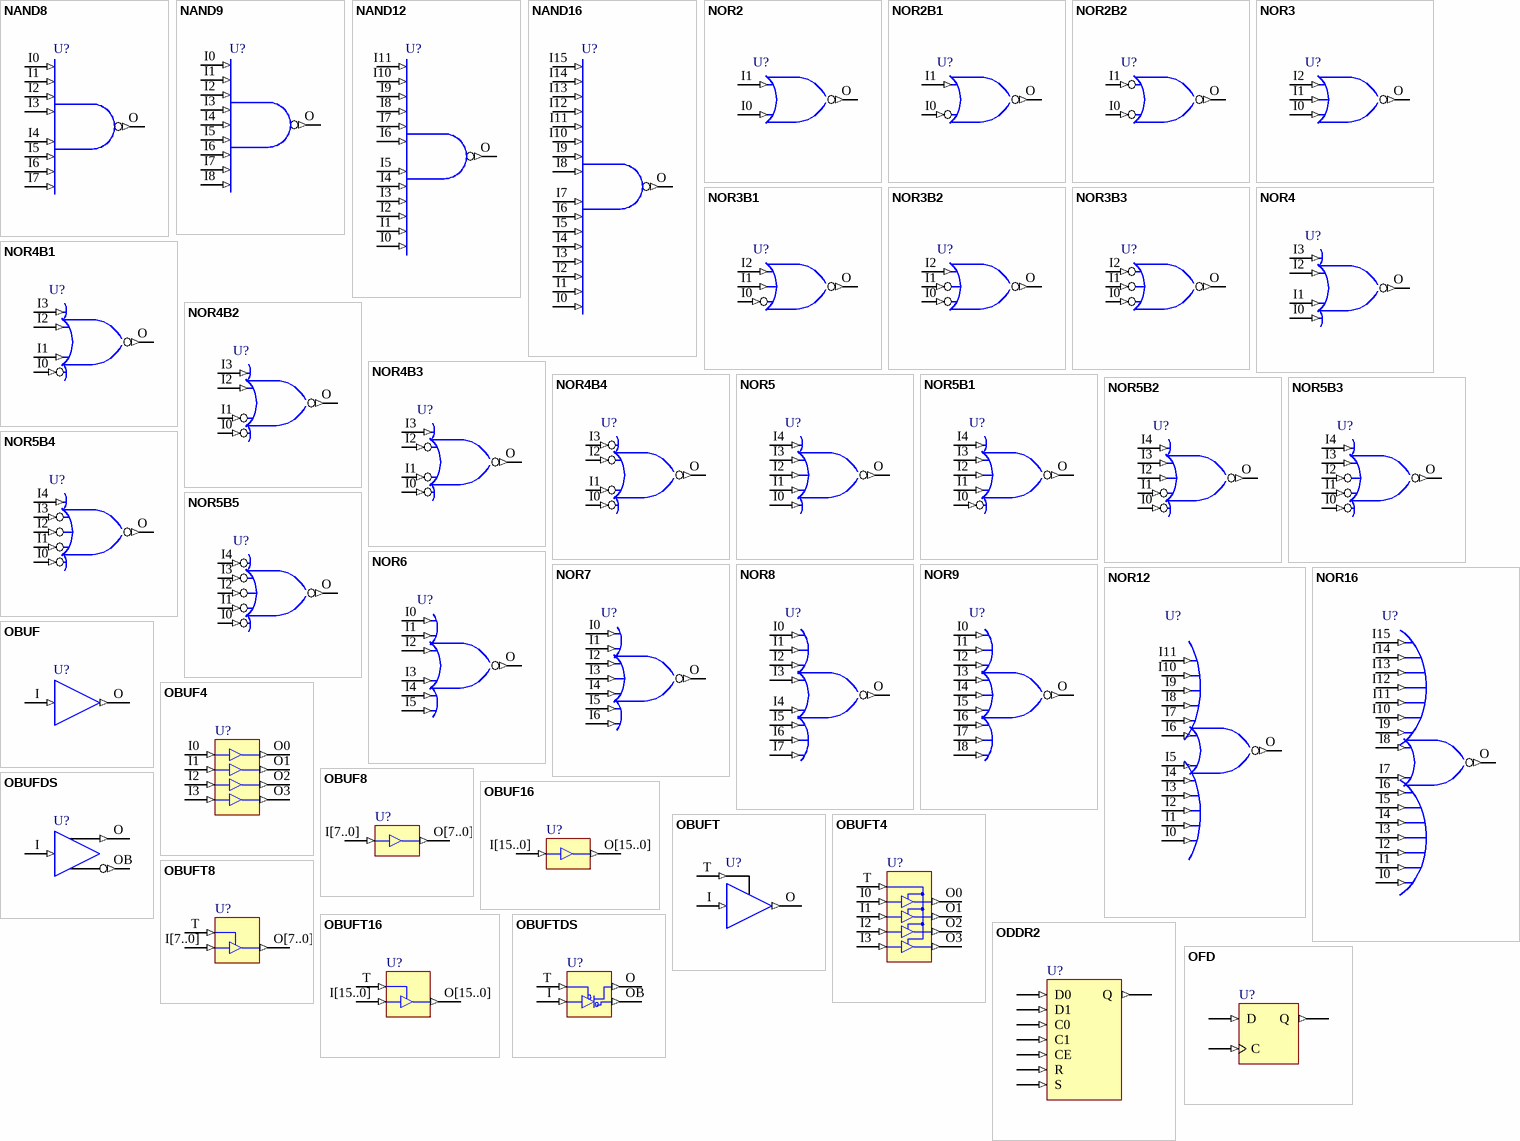
[diagram p8: symbols NAND8 to OFD]

## NAND8
designator U?
8-Input NAND Gate; FPGAVendor: Xilinx; Published: 17-Dec-2009; Publisher: Altium Limited; HelpURL: http://www.xilinx.com/support/documentation/sw_manuals/xilinx11/spartan6_scm.pdf
pins: I0 (in), I1 (in), I2 (in), I3 (in), I4 (in), I5 (in), I6 (in), I7 (in), O (out)

## NAND9
designator U?
9-Input NAND Gate; FPGAVendor: Xilinx; Published: 17-Dec-2009; Publisher: Altium Limited; HelpURL: http://www.xilinx.com/support/documentation/sw_manuals/xilinx11/spartan6_scm.pdf
pins: I0 (in), I1 (in), I2 (in), I3 (in), I4 (in), I5 (in), I6 (in), I7 (in), I8 (in), O (out)

## NAND12
designator U?
12-Input NAND Gate; FPGAVendor: Xilinx; Published: 17-Dec-2009; Publisher: Altium Limited; HelpURL: http://www.xilinx.com/support/documentation/sw_manuals/xilinx11/spartan6_scm.pdf
pins: I0 (in), I1 (in), I2 (in), I3 (in), I4 (in), I5 (in), I6 (in), I7 (in), I8 (in), I9 (in), I10 (in), I11 (in), O (out)

## NAND16
designator U?
16-Input NAND Gate; FPGAVendor: Xilinx; Published: 17-Dec-2009; Publisher: Altium Limited; HelpURL: http://www.xilinx.com/support/documentation/sw_manuals/xilinx11/spartan6_scm.pdf
pins: I0 (in), I1 (in), I2 (in), I3 (in), I4 (in), I5 (in), I6 (in), I7 (in), I8 (in), I9 (in), I10 (in), I11 (in), I12 (in), I13 (in), I14 (in), I15 (in), O (out)

## NOR2
designator U?
2-Input NOR Gate; FPGAVendor: Xilinx; Published: 17-Dec-2009; Publisher: Altium Limited; HelpURL: http://www.xilinx.com/support/documentation/sw_manuals/xilinx11/spartan6_scm.pdf
pins: I0 (in), I1 (in), O (out)

## NOR2B1
designator U?
2-Input NOR Gate with One Inverted Input; FPGAVendor: Xilinx; Published: 17-Dec-2009; Publisher: Altium Limited; HelpURL: http://www.xilinx.com/support/documentation/sw_manuals/xilinx11/spartan6_scm.pdf
pins: I0 (in), I1 (in), O (out)

## NOR2B2
designator U?
2-Input NOR Gate with Two Inverted Inputs; FPGAVendor: Xilinx; Published: 17-Dec-2009; Publisher: Altium Limited; HelpURL: http://www.xilinx.com/support/documentation/sw_manuals/xilinx11/spartan6_scm.pdf
pins: I0 (in), I1 (in), O (out)

## NOR3
designator U?
3-Input NOR Gate; FPGAVendor: Xilinx; Published: 17-Dec-2009; Publisher: Altium Limited; HelpURL: http://www.xilinx.com/support/documentation/sw_manuals/xilinx11/spartan6_scm.pdf
pins: I0 (in), I1 (in), I2 (in), O (out)

## NOR3B1
designator U?
3-Input NOR Gate with One Inverted Input; FPGAVendor: Xilinx; Published: 17-Dec-2009; Publisher: Altium Limited; HelpURL: http://www.xilinx.com/support/documentation/sw_manuals/xilinx11/spartan6_scm.pdf
pins: I0 (in), I1 (in), I2 (in), O (out)

## NOR3B2
designator U?
3-Input NOR Gate with Two Inverted Inputs; FPGAVendor: Xilinx; Published: 17-Dec-2009; Publisher: Altium Limited; HelpURL: http://www.xilinx.com/support/documentation/sw_manuals/xilinx11/spartan6_scm.pdf
pins: I0 (in), I1 (in), I2 (in), O (out)

## NOR3B3
designator U?
3-Input NOR Gate with Three Inverted Inputs; FPGAVendor: Xilinx; Published: 17-Dec-2009; Publisher: Altium Limited; HelpURL: http://www.xilinx.com/support/documentation/sw_manuals/xilinx11/spartan6_scm.pdf
pins: I0 (in), I1 (in), I2 (in), O (out)

## NOR4
designator U?
4-Input NOR Gate; FPGAVendor: Xilinx; Published: 17-Dec-2009; Publisher: Altium Limited; HelpURL: http://www.xilinx.com/support/documentation/sw_manuals/xilinx11/spartan6_scm.pdf
pins: I0 (in), I1 (in), I2 (in), I3 (in), O (out)

## NOR4B1
designator U?
4-Input NOR Gate with One Inverted Input; FPGAVendor: Xilinx; Published: 17-Dec-2009; Publisher: Altium Limited; HelpURL: http://www.xilinx.com/support/documentation/sw_manuals/xilinx11/spartan6_scm.pdf
pins: I0 (in), I1 (in), I2 (in), I3 (in), O (out)

## NOR4B2
designator U?
4-Input NOR Gate with Two Inverted Inputs; FPGAVendor: Xilinx; Published: 17-Dec-2009; Publisher: Altium Limited; HelpURL: http://www.xilinx.com/support/documentation/sw_manuals/xilinx11/spartan6_scm.pdf
pins: I0 (in), I1 (in), I2 (in), I3 (in), O (out)

## NOR4B3
designator U?
4-Input NOR Gate with Three Inverted Inputs; FPGAVendor: Xilinx; Published: 17-Dec-2009; Publisher: Altium Limited; HelpURL: http://www.xilinx.com/support/documentation/sw_manuals/xilinx11/spartan6_scm.pdf
pins: I0 (in), I1 (in), I2 (in), I3 (in), O (out)

## NOR4B4
designator U?
4-Input NOR Gate with Four Inverted Inputs; FPGAVendor: Xilinx; Published: 17-Dec-2009; Publisher: Altium Limited; HelpURL: http://www.xilinx.com/support/documentation/sw_manuals/xilinx11/spartan6_scm.pdf
pins: I0 (in), I1 (in), I2 (in), I3 (in), O (out)

## NOR5
designator U?
5-Input NOR Gate; FPGAVendor: Xilinx; Published: 17-Dec-2009; Publisher: Altium Limited; HelpURL: http://www.xilinx.com/support/documentation/sw_manuals/xilinx11/spartan6_scm.pdf
pins: I0 (in), I1 (in), I2 (in), I3 (in), I4 (in), O (out)

## NOR5B1
designator U?
5-Input NOR Gate with One Inverted Input; FPGAVendor: Xilinx; Published: 17-Dec-2009; Publisher: Altium Limited; HelpURL: http://www.xilinx.com/support/documentation/sw_manuals/xilinx11/spartan6_scm.pdf
pins: I0 (in), I1 (in), I2 (in), I3 (in), I4 (in), O (out)

## NOR5B2
designator U?
5-Input NOR Gate with Two Inverted Inputs; FPGAVendor: Xilinx; Published: 17-Dec-2009; Publisher: Altium Limited; HelpURL: http://www.xilinx.com/support/documentation/sw_manuals/xilinx11/spartan6_scm.pdf
pins: I0 (in), I1 (in), I2 (in), I3 (in), I4 (in), O (out)

## NOR5B3
designator U?
5-Input NOR Gate with Three Inverted Inputs; FPGAVendor: Xilinx; Published: 17-Dec-2009; Publisher: Altium Limited; HelpURL: http://www.xilinx.com/support/documentation/sw_manuals/xilinx11/spartan6_scm.pdf
pins: I0 (in), I1 (in), I2 (in), I3 (in), I4 (in), O (out)

## NOR5B4
designator U?
5-Input NOR Gate with Four Inverted Inputs; FPGAVendor: Xilinx; Published: 17-Dec-2009; Publisher: Altium Limited; HelpURL: http://www.xilinx.com/support/documentation/sw_manuals/xilinx11/spartan6_scm.pdf
pins: I0 (in), I1 (in), I2 (in), I3 (in), I4 (in), O (out)

## NOR5B5
designator U?
5-Input NOR Gate with Five Inverted Inputs; FPGAVendor: Xilinx; Published: 17-Dec-2009; Publisher: Altium Limited; HelpURL: http://www.xilinx.com/support/documentation/sw_manuals/xilinx11/spartan6_scm.pdf
pins: I0 (in), I1 (in), I2 (in), I3 (in), I4 (in), O (out)

## NOR6
designator U?
6-Input NOR Gate; FPGAVendor: Xilinx; Published: 17-Dec-2009; Publisher: Altium Limited; HelpURL: http://www.xilinx.com/support/documentation/sw_manuals/xilinx11/spartan6_scm.pdf
pins: I0 (in), I1 (in), I2 (in), I3 (in), I4 (in), I5 (in), O (out)

## NOR7
designator U?
7-Input NOR Gate; FPGAVendor: Xilinx; Published: 17-Dec-2009; Publisher: Altium Limited; HelpURL: http://www.xilinx.com/support/documentation/sw_manuals/xilinx11/spartan6_scm.pdf
pins: I0 (in), I1 (in), I2 (in), I3 (in), I4 (in), I5 (in), I6 (in), O (out)

## NOR8
designator U?
8-Input NOR Gate; FPGAVendor: Xilinx; Published: 17-Dec-2009; Publisher: Altium Limited; HelpURL: http://www.xilinx.com/support/documentation/sw_manuals/xilinx11/spartan6_scm.pdf
pins: I0 (in), I1 (in), I2 (in), I3 (in), I4 (in), I5 (in), I6 (in), I7 (in), O (out)

## NOR9
designator U?
9-Input NOR Gate; FPGAVendor: Xilinx; Published: 17-Dec-2009; Publisher: Altium Limited; HelpURL: http://www.xilinx.com/support/documentation/sw_manuals/xilinx11/spartan6_scm.pdf
pins: I0 (in), I1 (in), I2 (in), I3 (in), I4 (in), I5 (in), I6 (in), I7 (in), I8 (in), O (out)

## NOR12
designator U?
12-Input NOR Gate; FPGAVendor: Xilinx; Published: 17-Dec-2009; Publisher: Altium Limited; HelpURL: http://www.xilinx.com/support/documentation/sw_manuals/xilinx11/spartan6_scm.pdf
pins: I0 (in), I1 (in), I2 (in), I3 (in), I4 (in), I5 (in), I6 (in), I7 (in), I8 (in), I9 (in), I10 (in), I11 (in), O (out)

## NOR16
designator U?
16-Input NOR Gate; FPGAVendor: Xilinx; Published: 17-Dec-2009; Publisher: Altium Limited; HelpURL: http://www.xilinx.com/support/documentation/sw_manuals/xilinx11/spartan6_scm.pdf
pins: I0 (in), I1 (in), I2 (in), I3 (in), I4 (in), I5 (in), I6 (in), I7 (in), I8 (in), I9 (in), I10 (in), I11 (in), I12 (in), I13 (in), I14 (in), I15 (in), O (out)

## OBUF
designator U?
Single-Output Buffer (using the LVTTL standard); FPGAVendor: Xilinx; Published: 17-Dec-2009; Publisher: Altium Limited; HelpURL: http://www.xilinx.com/support/documentation/sw_manuals/xilinx11/spartan6_scm.pdf
pins: I (in), O (out)